# Altium footprint library 电容.PcbLib: 58 footprints (part 4 of 4)
Each footprint in its own frame and in the unit in brackets; x right, y up, seen from the top. Pads: shape width x height; smd on the part's side, far side on the other; paste and mask are expansions set on the pad; w line width, h text height; cw(c..) or ccw(c..) is an arc to the next point about the centre after c.
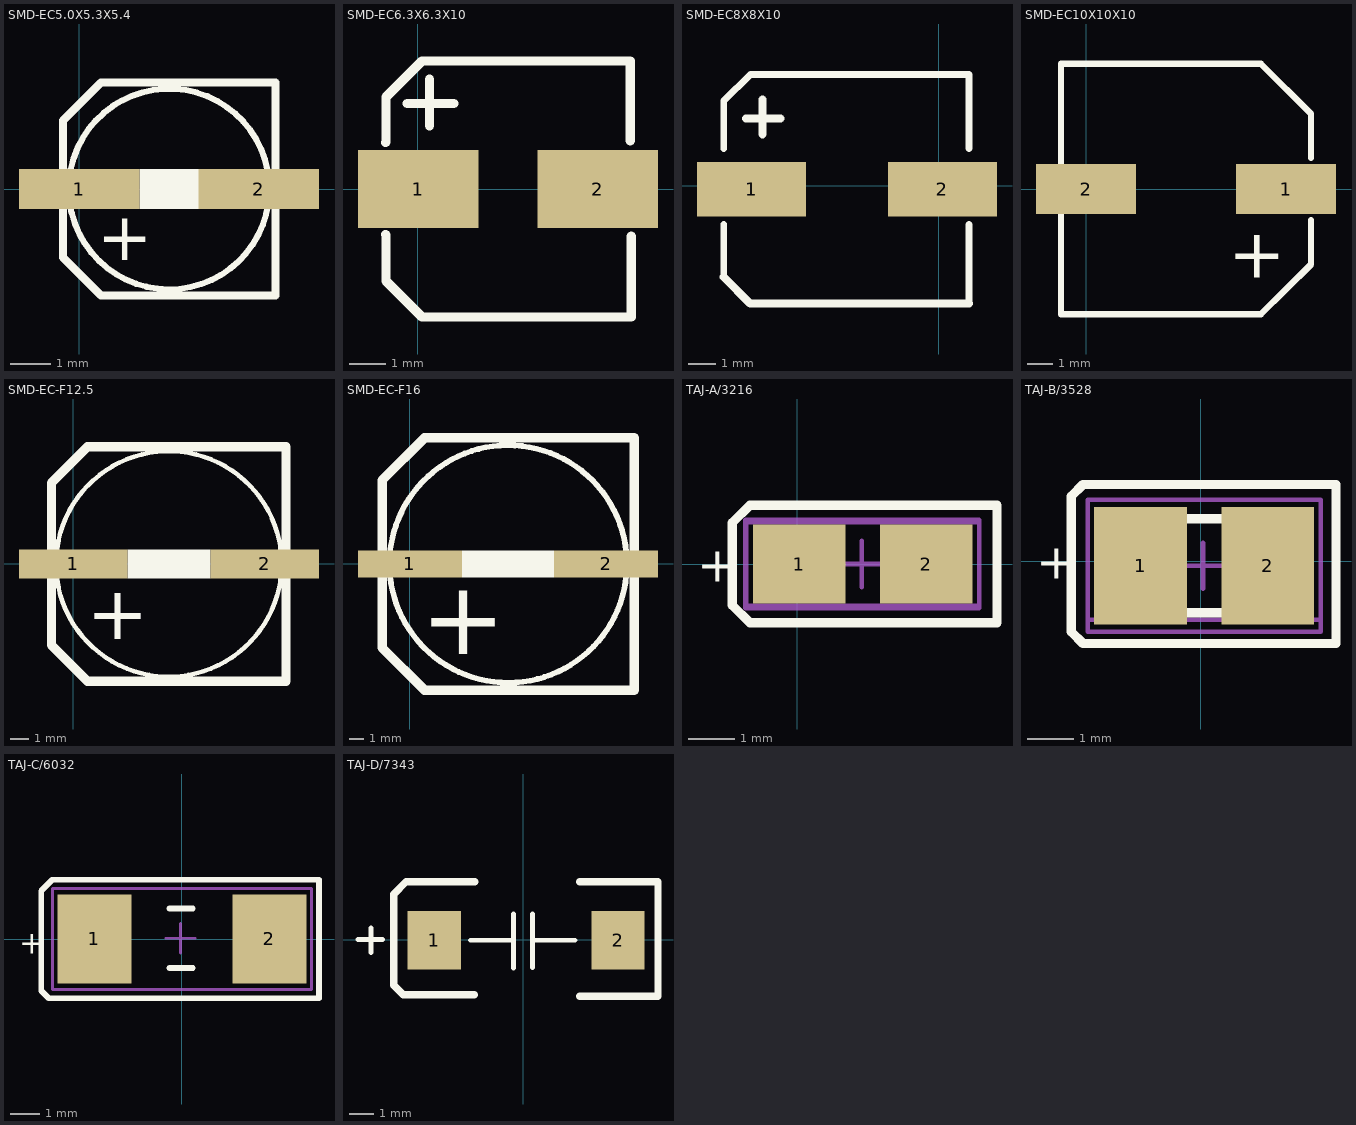
[diagram p3: the footprints below, top view; thin cyan lines are the x and y axes]

## SMD-EC5.0X5.3X5.4 [mm]
pads (2):
  rect 3x1 smd: 1(0,0) 2(4.477,0)
Top Overlay:
  rectangle: 1.5,-0.5 2.981,0.5
  lines w0.152: 4.412,1.239 ccw(c2.241,0) 4.415,1.235
  lines w0.203: 0.217,-2.33 -0.407,-1.706 ; 4.89,2.656 0.542,2.656 0.541,2.655 -0.407,1.707 -0.407,-1.706 ; 4.891,-2.654 0.542,-2.654 0.542,-2.654 -0.407,-1.706 ; 4.892,-2.654 4.892,2.654
  text "+" at 0.445,-1.777 h1.2
Mechanical 7:
  text ".Comment" at -0.127,-0.508 h0.76
  text ".Designator" at -0.141,0.491 h0.76
3D body "ALU-C_5.0x5.3x5.4.STEP": height 5.41, standoff 0, extent -0.791,-2.65 5.109,2.65

## SMD-EC6.3X6.3X10 [mm]
pads (2):
  rect 3.3x2.132 smd: 1(0.021,0) 2(4.921,0)
Top Overlay:
  lines w0.008: -0.879,-1.244 -0.814,-1.31 -0.814,-2.565 0.121,-3.5 5.836,-3.5
  lines w0.254: -0.879,-1.244 -0.865,-1.259 -0.865,-2.514 0.121,-3.5 5.826,-3.5 5.836,-3.49 ; -0.879,1.27 -0.865,1.285 -0.865,2.515 0.121,3.5 5.81,3.5 5.81,1.321 ; -0.286,2.337 0.984,2.337 ; 0.324,1.728 0.324,2.998 ; 5.836,-3.5 5.836,-1.295
Mechanical 7:
  text ".Comment" at -0.254,-1.905 h1.02
  text ".Designator" at -0.381,0.889 h1.02
3D body "ALU-D_6.3x6.6x5.4.STEP": height 5.4, standoff 0, extent -1.087,-3.3 5.913,3.3

## SMD-EC8X8X10 [mm]
pads (2):
  rect 4x2 smd: 1(-6.858,-0.127) 2(0.142,-0.127)
Top Overlay:
  lines w0.254: -7.878,-1.422 -7.878,-3.349 -6.909,-4.318 1.118,-4.318 1.118,-1.422 ; -7.878,1.372 -7.878,3.108 -6.904,4.082 1.118,4.082 1.118,1.372
  lines w0.3: -7.878,-3.344 -7.878,-3.349 -6.909,-4.318 1.118,-4.318 ; -7.061,2.473 -5.791,2.473 ; -6.452,1.889 -6.452,3.159
Mechanical 7:
  text ".Comment" at -6.35,-1.905 h1.27
  text ".Designator" at -6.618,0.11 h1.27
3D body "ALU-F_8.0x8.3x10.2.STEP": height 10.2, standoff 0, extent -8.379,-4.277 1.521,4.023

## SMD-EC10X10X10 [mm]
pads (2):
  rect 4x2 smd: 1(8,0) 2(0,0)
Top Overlay:
  lines w0.254: -1,-1.295 -1,-5.004 ; -1,1.295 -1,5.004 ; 4,-5.004 -1,-5.004 ; 8.999,-1.245 8.999,-3.023 6.997,-5.004 -1,-5.004 ; 8.999,1.245 8.999,3.004 6.997,5.004 -1,5.004 ; -1,-5.004 -1,5.004
  text "+" at 7.988,-1.854 h2
3D body "ALU-G_10.0x10.3x10.2.STEP": height 10.2, standoff 0, extent -1.864,-5.12 9.736,5.18

## SMD-EC-F12.5 [mm]
pads (2):
  rect 6x1.6 smd: 1(0,0) 2(10.625,0)
Top Overlay:
  circle w0.254: c5.303,0 r6.25
  rectangle: 3.019,-0.8 7.601,0.8
  lines w0.508: -1.202,-4.498 -1.202,4.494 0.797,6.493 0.799,6.495 11.797,6.495 11.797,-6.499 0.799,-6.499 -1.202,-4.498
  text "+" at 0.75,-4.168 h3

## SMD-EC-F16 [mm]
pads (2):
  rect 7x1.8 smd: 1(0,0) 2(13.215,0)
Top Overlay:
  rectangle: 3.503,-0.9 9.696,0.914
  lines w0.381: 14.301,2.24 ccw(c6.62,0.001) 14.315,2.19
  lines w0.635: 15.122,-8.499 15.123,-8.5 ; 15.122,8.496 15.123,8.497 ; 15.123,-8.5 15.123,8.497 ; 15.123,-8.5 0.981,-8.5 -1.877,-5.642 -1.877,5.638 0.981,8.497 15.123,8.497
  text "+" at 0.729,-6.087 h5

## TAJ-A/3216 [mm]
pads (2):
  rect 2x1.7 smd: 1(0.047,0) 2(2.794,0)
Top Overlay:
  lines w0.2: 4.318,-1.016 4.318,1.27 -1.016,1.27 -1.397,0.889 -1.397,-0.889 -1.016,-1.27 4.318,-1.27 4.318,1.016
  text "+" at -2.159,-0.381 h0.76
Mechanical 13:
  lines w0.1: -1.092,-0.9 3.937,-0.9 3.937,0.9 -1.092,0.9 -1.092,-0.9
Mechanical 15:
  lines w0.1: 0.897,0 1.897,0 ; 1.397,-0.5 1.397,0.5 ; -1.118,-0.95 3.937,-0.95 3.937,0.95 -1.118,0.95 -1.118,-0.95
3D body "TAJ-A.STEP": height 1.6, standoff 0, extent -0.203,-0.8 2.997,0.8

## TAJ-B/3528 [mil]
pads (2):
  rect 78.74x100 smd: 1(-51.15,-4) 2(57,-4)
Top Overlay:
  lines w7.87: -13,-44 18.5,-44 ; -13,36 18.5,36 ; -110,-60 -110,55 -100,65 115,65 115,-70 -100,-70 -110,-60
  text "+" at -140,-15 h30
Mechanical 13:
  lines w3.94: -96,-60 102,-60 102,52 -96,52 -96,-60
Mechanical 15:
  lines w3.94: -17.68,-4 21.68,-4 ; 2,-23.68 2,15.69 ; -96,-50 102,-50 102,52 -96,52 -96,-50
3D body "TAJ-B.STEP": height 74.8, standoff 0, extent -63.89,-60.11 73.9,50.12

## TAJ-C/6032 [mil]
pads (2):
  rect 100x120 smd: 1(-118.1,0.01) 2(118.12,0.01)
Top Overlay:
  lines w7.87: -17,-39 14.5,-39 ; -17,41 14.5,41 ; -190,-70 -180,-80 185,-80 185,34 185,80 -175,80 -190,65 -190,-70
  text "+" at -220,-20 h30
Mechanical 13:
  lines w3.94: -175,-68 -175,68 175,68 175,-68 -175,-68
Mechanical 15:
  lines w3.94: -21.68,1 17.68,1 ; -2,-18.68 -2,20.69 ; -175,-68 -175,68 175,68 175,-68 -175,-68
3D body "TAJ-C.STEP": height 102.36, standoff 0, extent -123.11,-65.98 113.11,60

## TAJ-D/7343 [mm]
pads (2):
  rect 2.2x2.4 smd: 1(-3.683,-0.025) 2(3.912,-0.025)
Top Overlay:
  lines w0.2: -6.833,0 -5.817,0 ; -6.299,-0.533 -6.299,0.483
  lines w0.203: -2.184,-0.025 -0.406,-0.025 ; -0.406,-1.168 -0.406,1.052 ; 0.372,-1.16 0.372,1.06 ; 0.372,-0.025 2.134,-0.025
  lines w0.305: -2.032,-2.275 -4.964,-2.275 -5.359,-1.88 -5.359,1.88 -4.851,2.388 -2.007,2.388 ; 2.324,-2.337 5.563,-2.337 5.563,2.388 2.324,2.388
3D body "TAJ-D.STEP": height 2.9, standoff 0, extent -3.523,-2.15 3.777,2.15